# EAGLE library part X9313WP (library Intersil_By_element14_Batch_1)
Linear, 32 Taps, 3 Wire Interface
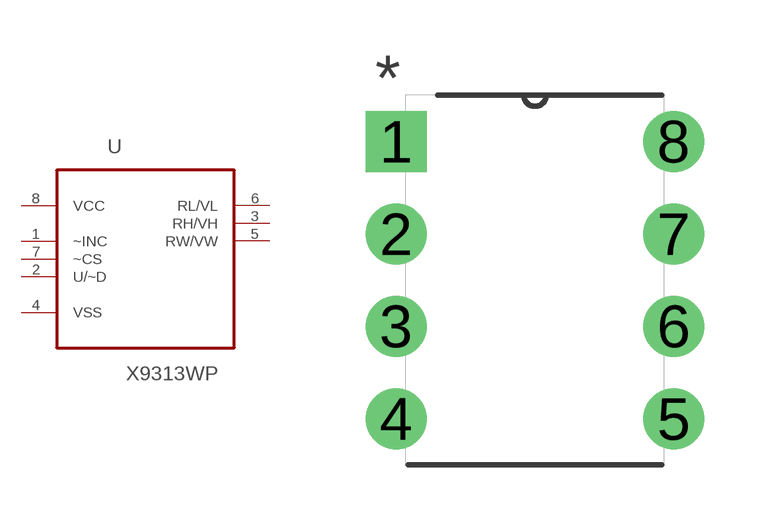
[diagram p231: symbol with the pads of DIP254P762X533-8; footprint DIP254P762X533-8]

Designator prefix U

## X9313WP (MPN: X9313WP; OC_FARNELL: -; OC_NEWARK: 51J6962; PACKAGE: PDIP-8; SUPPLIER: INTERSIL)  [DIP254P762X533-8]
1  ~INC  in
2  U/~D  in
3  RH/VH  pas
4  VSS  pas
5  RW/VW  pas
6  RL/VL  pas
7  ~CS  in
8  VCC  pwr

## Footprint DIP254P762X533-8 (pad centres in mm)
drill 1.118 square: 1 -7.62,7.62
drill 1.118: 2 -7.62,5.08; 3 -7.62,2.54; 4 -7.62,0; 5 0,0; 6 0,2.54; 7 0,5.08; 8 0,7.62